# Altium schematic symbol library Power Board UCC28951.SchLib: 26 symbols
Pins are listed as number, name and electrical type; pins without a type are passive.

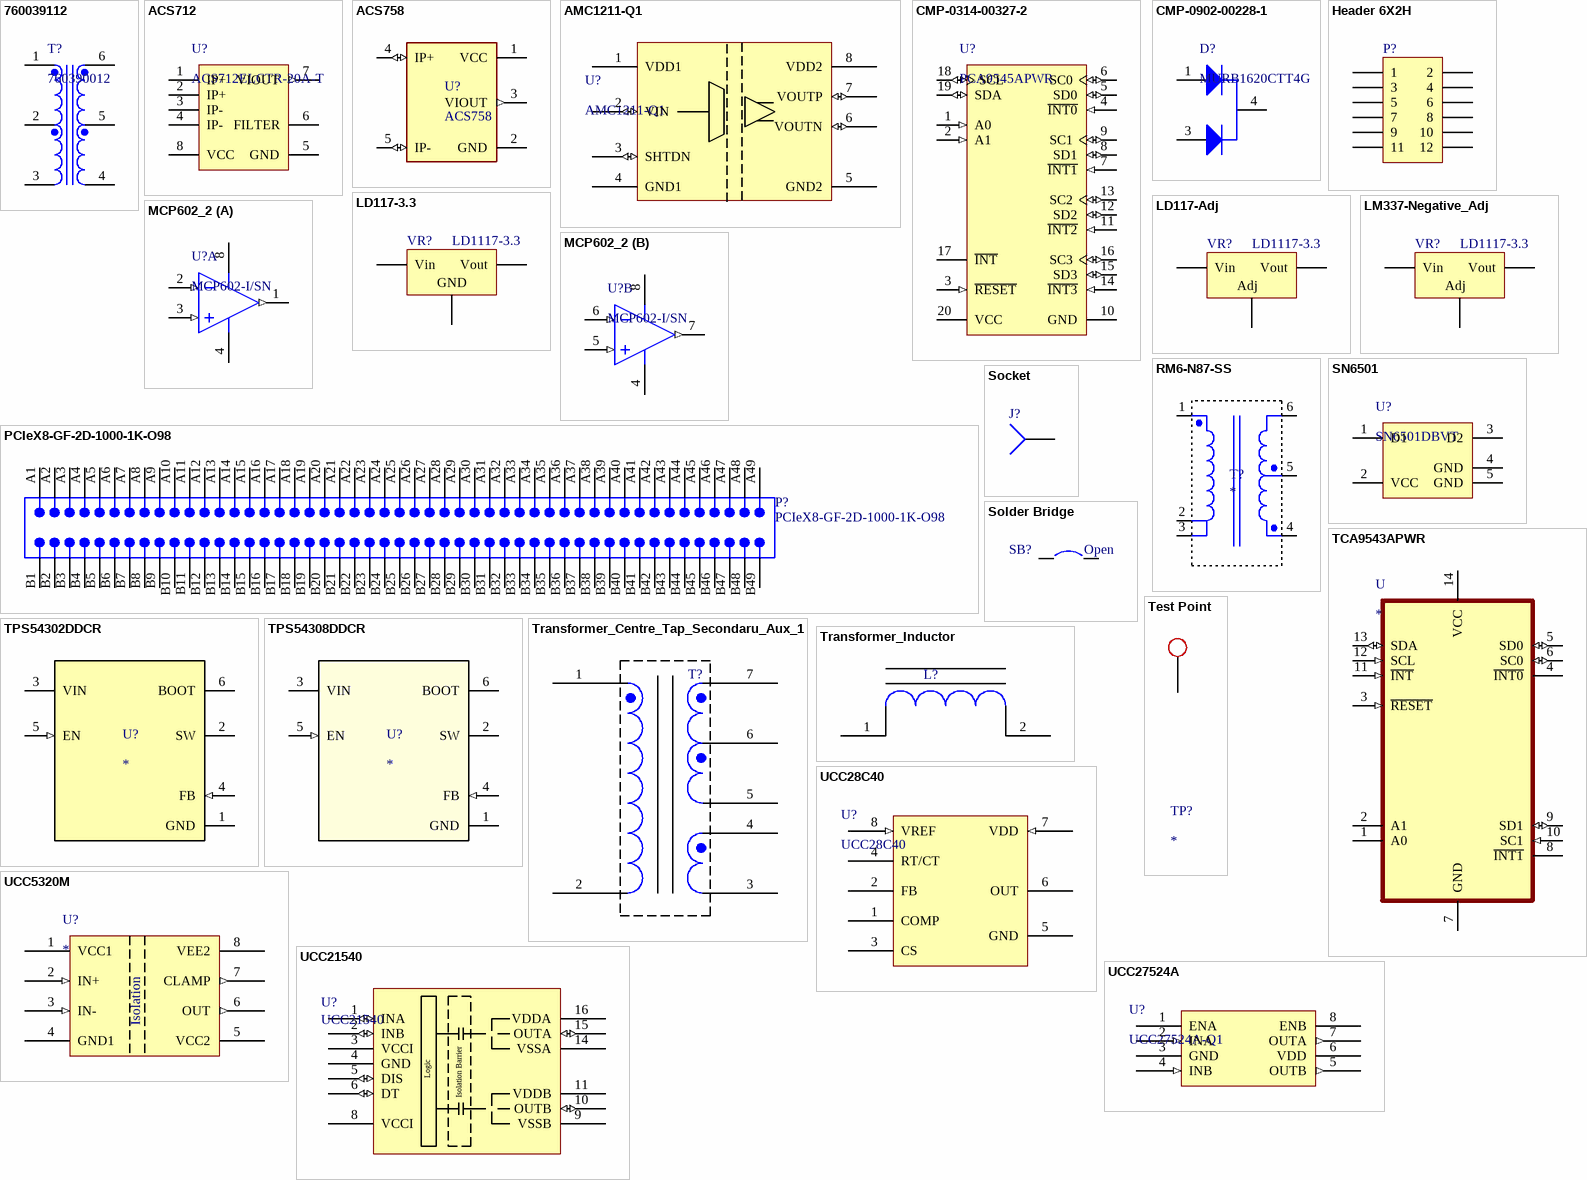
[diagram p0: symbols 760039112 to UCC27524A]

## 760039112
designator T?, comment 760390012
Transformer, 150 mA, -40 to 125 degC, 6-Pin SMD, RoHS, Tape and Reel; Manufacturer: Wuerth Elektronik; Mounting Technology: SurfaceMount; Manufacturer URL: https://www.we-online.com/; Datasheet Version: Rev. 6C, 06/2013; Datasheet URL: https://datasheet.ciiva.com/12335/760390012-221167-12335394.pdf; Package Description: 6-Pin Surface Mount Device, Body 7.14 x 6.73 mm, Pitch 2.54 mm; Package Reference: 7060390012-6
footprint WE-760390012-6_V (SMD, 6-Leads, Body 7.14x6.73mm, Pitch 2.54mm)
pins: 1, 2, 3, 4, 5, 6

## ACS712
designator U?, comment ACS712ELCTR-20A-T
Linear Current Sensor IC, 4.5 to 5.5 V Supply Voltage, 10 mA Supply Current, -40 to 85 degC, 8-Pin SOIC (LC), RoHS, Tape and Reel; Manufacturer: Allegro Microsystems; CLOAD: 10 nF Max.; ICC: 10 mA; F: 80 kHz; RLOAD: 4.7 kOhm Min.; Optimized Accuracy Range: +/- 20 A; TR: 3.5 us; Sensitivity Sens: 100 mV/A Typ.; Operating Temperature Range: -40 to 85 degC; ComponentLink2URL: http://www.allegromicro.com/~/media/Files/Datasheets/ACS712-Datasheet.ashx; ComponentLink1Description: Manufacturer URL; VCC: 4.5 to 5.5 V; Mounting Technology: Surface Mount; DatasheetVersion: Rev. 15; ComponentLink2Description: Datasheet; ComponentLink1URL: http://www.allegromicro.com/; PackageDescription: 8-Pin SOIC, Body 4.9 x 3.9 mm, Pitch 1.27 mm; PackageReference: LC-8; RoHS: TRUE; Packing: Tape and Reel; PartNumber: ACS712ELCTR-20A-T
pins: 1 IP+ "Terminals for current being sampled; fused internally", 2 IP+ "Terminals for current being sampled; fused internally", 3 IP- "Terminals for current being sampled; fused internally", 4 IP- "Terminals for current being sampled; fused internally", 5 GND (power) "Signal ground terminal", 6 FILTER "Terminal for external capacitor that sets bandwidth", 7 VIOUT (out) "Analog output signal", 8 VCC (power) "Device power supply terminal"

## ACS758
designator U?
Current Sensor 50A 1 Channel Hall Effect, Open Loop Unidirectional 5-CB Formed Leads, PFF; MF: Allegro MicroSystems LLC; Package: 5-CB-5 Allegro MicroSystems LLC; MP: ACS758; Availability: Unavailable; Price: None; Value: *; SnapEDA_Link: https://www.snapeda.com/parts/ACS758/Allegro%20MicroSystems%20LLC/view-part/226237/?ref=snap
footprint XDCR_ACS758
pins: 1 VCC (power), 2 GND (power), 3 VIOUT (out), 4 IP+ (io), 5 IP- (io)

## AMC1211-Q1
designator U?
footprint SOIC127P570X175_HS-9N (SOIC, 8-Leads, Body 4.91x3.90mm, Pitch 1.27mm, Thermal Pad 3.00x3.00mm, IPC Medium Density)
pins: 1 VDD1 (power), 2 VIN (io), 3 SHTDN (io), 4 GND1 (power), 5 GND2 (power), 6 VOUTN (io), 7 VOUTP (io), 8 VDD2 (power)

## CMP-0314-00327-2
designator U?, comment PCA9545APWR
4-Channel I2C and SMBus Multiplexer with Interrupt Logic and Reset Functions, 2.3 to 5.5 V, -40 to 85 degC, 20-pin TSSOP (PW), Green (RoHS & no Sb/Br); Manufacturer: Texas Instruments; Max Frequency(kHz): 400; Interrupt Output: Yes; Channel Width: 4; VCC(Max)(V): 5.5; Simultaneously Active Channels: 1 to 4; VCC(Min)(V): 2.3; tpd max(ns): 1; SubFamily: I2C Multiplexer, Switch; I2C Address: 1110 0xx; fSCLK(Max)(MHz): 400; Code_JEDEC: MO-153; 5V Tolerant I/O: Yes; Vcc range(V): 2.3 to 5.5; PackageReference: PW0020A; Mounting Technology: Surface Mount; Open Drain I/O Type: Yes; ComponentLink1URL: http://www.ti.com/general/docs/lit/getliterature.tsp?genericPartNumber=PCA9545A&fileType=pdf; ComponentLink1Description: Datasheet; PackageVersion: revG, Feb-2011; DatasheetVersion: SCPS147C; PartNumber: PCA9545APWR; Eco-Plan: Green (RoHS & no Sb/Br); Reset Input: Yes; PackageDescription: 20-Pin Plastic Thin Small Outline Package 6.5 x 4.4 mm Body ,0.65 mm Pitch
footprint QFN50P350X450X80_HS-21N (QFN, 20-Leads, Body 3.50x4.50mm, Pitch 1.50mm/0.50mm, Thermal Pad 2.10x3.10mm, IPC Medium Density)
pins: 1 A0 (in) "Address input 0. Connect directly to VCC or ground.", 2 A1 (in) "Address input 1. Connect directly to VCC or ground.", 3 ~{RESET} (in) "Active-low reset input. Connect to VCC through a pullup resistor, if not used.", 4 ~{INT0} (in) "Active-low interrupt input 0. Connect to VCC through a pullup resistor.", 5 SD0 (io) "Serial data 0. Connect to VCC through a pullup resistor.", 6 SC0 (io) "Serial clock 0. Connect to VCC through a pullup resistor.", 7 ~{INT1} (in) "Active-low interrupt input 1. Connect to VCC through a pullup resistor.", 8 SD1 (io) "Serial data 1. Connect to VCC through a pullup resistor.", 9 SC1 (io) "Serial clock 1. Connect to VCC through a pullup resistor.", 10 GND (power) "Ground", 11 ~{INT2} (in) "Active-low interrupt input 2. Connect to VCC through a pullup resistor.", 12 SD2 (io) "Serial data 2. Connect to VCC through a pullup resistor.", 13 SC2 (io) "Serial clock 2. Connect to VCC through a pullup resistor.", 14 ~{INT3} (in) "Active-low interrupt input 3. Connect to VCC through a pullup resistor.", 15 SD3 (io) "Serial data 3. Connect to VCC through a pullup resistor.", 16 SC3 (io) "Serial clock 3. Connect to VCC through a pullup resistor.", 17 ~{INT} (oc) "Active-low interrupt output. Connect to VCC through a pullup resistor.", 18 SCL (io) "Serial clock line. Connect to VCC through a pullup resistor.", 19 SDA (io) "Serial data line. Connect to VCC through a pullup resistor.", 20 VCC (power) "Supply power"

## CMP-0902-00228-1
designator D?, comment MURB1620CTT4G
SWITCHMODE(TM) Power Rectifier, 3-Pin D2PAK, Pb-Free, Tape and Reel; Manufacturer: On Semiconductor; IFSM Max (A): 100; VRRM Max (V): 200; Type: Ultrafast; ComponentLink2URL: http://www.onsemi.cn/pub_link/Collateral/MURB1620CT-D.PDF; Mounting Technology: Surface Mount; PackageReference: D2PAK-3-418B-04; PackageDescription: 3-Pin Flange Mount, Body 9.145 x 9.97 mm, Pitch 2.54 mm; PackageVersion: Rev. K, 09/2008; RoHS: TRUE; PartNumber: MURB1620CTT4G; Packing: Tape and Reel; ComponentLink1URL: http://www.onsemi.com/; ComponentLink3Description: Package Specification; ComponentLink3URL: http://www.onsemi.com/pub_link/Collateral/418B-04.PDF; DatasheetVersion: Rev. 7; ComponentLink2Description: Datasheet; ComponentLink1Description: Manufacturer URL
footprint DPAK254P1542X450-3N - diode (D2-PAK, 3-Pads, Body 7.60x8.36mm (max), IPC Medium Density)
pins: 1 A1, 3 A2, 4 K

## Header 6X2H
designator P?
Header, 6-Pin, Dual row, Right Angle; LatestRevisionDate: 17-Jul-2002; LatestRevisionNote: Re-released for DXP Platform.; Publisher: Altium Limited
footprint Stackable-Conn (Pin Header, pitch 2.54 mm, THT, Vertical, dual row, 12p)
pins: 1, 2, 3, 4, 5, 6, 7, 8, 9, 10, 11, 12

## LD117-3.3
designator VR?, comment LD1117-3.3
Voltage Regulator; Published: 24-Mar-1999; LatestRevisionDate: 29-May-2009; LatestRevisionNote: IPC-7351 Footprint Added.; PackageReference: D2PAK; Publisher: Altium Limited; PackageDescription: 3-Pin Transistor Outline Package 2.54 mm Pitch, 15.1 mm Lead Span
footprint SOT230P700X180-4N (SOT223, 4-Leads, Body 6.50x7.00mm (avg), Pitch 2.30mm, IPC Medium Density)
pins: 1 GND, 2 Vout, 3 Vin

## LD117-Adj
designator VR?, comment LD1117-3.3
Voltage Regulator; Published: 24-Mar-1999; LatestRevisionDate: 29-May-2009; LatestRevisionNote: IPC-7351 Footprint Added.; PackageReference: D2PAK; Publisher: Altium Limited; PackageDescription: 3-Pin Transistor Outline Package 2.54 mm Pitch, 15.1 mm Lead Span
footprint SOT230P700X180-4N (SOT223, 4-Leads, Body 6.50x7.00mm (avg), Pitch 2.30mm, IPC Medium Density)
pins: 1 Adj, 2 Vout, 3 Vin

## LM337-Negative_Adj
designator VR?, comment LD1117-3.3
Voltage Regulator; Published: 24-Mar-1999; LatestRevisionDate: 29-May-2009; LatestRevisionNote: IPC-7351 Footprint Added.; PackageReference: D2PAK; Publisher: Altium Limited; PackageDescription: 3-Pin Transistor Outline Package 2.54 mm Pitch, 15.1 mm Lead Span
footprint SOT230P700X180-4N (SOT223, 4-Leads, Body 6.50x7.00mm (avg), Pitch 2.30mm, IPC Medium Density)
pins: 1 Adj, 2 Vin, 3 Vout

## MCP602_2
designator U?, comment MCP602-I/SN
2.7V to 6.0V Single Supply CMOS Operational Amplifier, 8-Pin SOIC, Industrial Temperature; ComponentLink1URL: http://www.microchip.com/; ComponentLink1Description: Manufacturer URL; RevisionNote: URLs added.; PackageReference: SOIC-SN8; ComponentLink2URL: http://ww1.microchip.com/downloads/en/DeviceDoc/21314g.pdf; ComponentLink3URL: http://www.microchip.com/stellent/groups/techpub_sg/documents/packagingspec/en012702.pdf; PackageDescription: 8-Lead Plastic Small Outline (SN) - Narrow, 3.90mm Body [SOIC]; DatasheetVersion: revG, Dec-2007; ComponentLink2Description: Datasheet; ComponentLink3Description: Package Specification; Code_IPC: SOIC127P600-8; Code_JEDEC: MS-012; PackageVersion: revBB, Aug-2009
footprint SOIC127P570X175_HS-9N - No Thermal (SOIC, 8-Leads, Body 4.91x3.90mm, Pitch 1.27mm, Thermal Pad 3.00x3.00mm, IPC Medium Density)
pins on every part: 4 VSS (power), 8 VDD (power)
part A pins: 1 VOUTA (out), 2 VINA- (in), 3 VINA+ (in)
part B pins: 5 VINB+ (in), 6 VINB- (in), 7 VOUTB (out)

## PCIeX8-GF-2D-1000-1K-O98
designator P?  (no BOM)
Golden finger, PCIeX8, Dual, Opposite, Pitch 1mm, 98-Position; Mating Connector: Molex-87715-9205; Package Version: rev2.0, Apr-2007; ClassName: Edge Connector; Package Reference: GF-2D-1000-1K-O98; Datasheet Version: rev2.0, Apr-2007; Publisher: Altium
footprint SMTC-PCIE-098-02-F-D-TH_V (TH, 98-Leads, Body 56x8.61mm, Pitch 1mm)
pins: A1, A2, A3, A4, A5, A6, A7, A8, A9, A10, A11, A12, A13, A14, A15, A16, A17, A18, A19, A20, A21, A22, A23, A24, A25, A26, A27, A28, A29, A30, A31, A32, A33, A34, A35, A36, A37, A38, A39, A40, A41, A42, A43, A44, A45, A46, A47, A48, A49, B1, B2, B3, B4, B5, B6, B7, B8, B9, B10, B11, B12, B13, B14, B15, B16, B17, B18, B19, B20, B21, B22, B23, B24, B25, B26, B27, B28, B29, B30, B31, B32, B33, B34, B35, B36, B37, B38, B39, B40, B41, B42, B43, B44, B45, B46, B47, B48, B49

## RM6-N87-SS
designator T?
footprint RM6-N87-SS (TDK)
pins: 1, 2, 3 hidden, 3 1, 4, 5, 6, 8 hidden

## SN6501
designator U?, comment SN6501DBVT
Transformer Driver for Isolated Power Supplies, 0.15 to 0.35 A, 3 to 5.5 V, -40 to 125 degC, 5-Pin SOT-23 (DBV), Green (RoHS & no Sb/Br), Tape and Reel; Manufacturer: TexasInstruments; Package Version: 4073253-4/N, 12/2014; Minimum Input Voltage: 3V; Switching Frequency: 300to620kHz; Output Voltage: 0to11V; Number of Outputs: 1; Maximum Input Voltage: 5.5V; Maximum Output Current: 0.35A; Type: Non-Inverting|Inverting|StepUp|StepDown; Package: 5SOT-23; Package URL: http://www.ti.com/lit/ml/mpds018l/mpds018l.pdf; Category: DCtoDCConverter; Package Reference: DBV5; Datasheet Version: Rev. G, 09/2014; Packaging: Tape&Reel; Operating Temperature: -40to125°C; Manufacturer URL: http://www.ti.com/; Mounting: SurfaceMount; Rad Hard: No; Package Description: 5-Pin Small Outline Transistor, Body 2.9 x 1.6 mm, Pitch 0.95 mm; Datasheet URL: http://www.ti.com/lit/ds/symlink/sn6501.pdf; Mounting Technology: SurfaceMount
footprint SOT95P278X110-5N (SOT23, 5-Leads, Body 2.90x2.78mm, Pitch 0.95mm, IPC Medium Density)
pins: 1 D1 (oc) "Open Drain output 1. Connect this pin to one end of the transformer primary side", 2 VCC (power) "Supply voltage input. Connect this pin to the center-tap of the transformer primary side. Buffer this voltage with a 1 uF to 10 uF ceramic capacitor", 3 D2 (oc) "Open Drain output 2. Connect this pin to the other end of the transformer primary side.", 4 GND (power) "Device ground. Connect this pin to board ground.", 5 GND (power) "Device ground. Connect this pin to board ground."

## Socket
designator J?
Socket; LatestRevisionDate: 17-Jul-2002; LatestRevisionNote: Re-released for DXP Platform.; Publisher: Altium Limited
footprint Mounting_hole_3mm
footprint Mounting_screw_3mm
pins: 1

## Solder Bridge
designator SB?, comment Open  (no BOM)
Circuit Breaker; Published: 24-Mar-1999; Revision: July-2002: Re-released for DXP Platform.; Publisher: Altium Limited
footprint SB_0603 (Jumper)
footprint 1206 - Solder Bridge
footprint 0805-Solder Bridge
footprint Solder Bridge - HP - SQ
footprint Solder Bridge - HP
pins: 1, 2

## TCA9543APWR
designator U
2-Channel I2C Bus Switch With Interrupt Logic and Reset 14-TSSOP -40 to 85; MF: Texas Instruments; MP: TCA9543APWR; Package: TSSOP-14 Texas Instruments; Mouser-Purchase-URL: https://snapeda.com/shop?store=Mouser&id=422469; Texas_Instruments-Purchase-URL: https://snapeda.com/shop?store=Texas+Instruments&id=422469; Value: *; Price: None; DigiKey-Purchase-URL: https://snapeda.com/shop?store=DigiKey&id=422469; Availability: Good; SnapEDA_Link: https://www.snapeda.com/parts/TCA9543APWR/Texas%20Instruments/view-part/422469/?ref=snap
footprint TSOP65P640X120-14N (TSOP, 14-Leads, Body 5.00x4.40mm, Pitch 0.65mm, IPC Medium Density)
pins: 1 A0, 2 A1, 3 ~{RESET} (in), 4 ~{INT0}, 5 SD0 (io), 6 SC0 (io), 7 GND (power), 8 ~{INT1}, 9 SD1 (io), 10 SC1 (in), 11 ~{INT} (in), 12 SCL (in), 13 SDA (io), 14 VCC (power)

## Test Point
designator TP?  (no BOM)
Test Point
footprint Test_point_THT
footprint Test_point_SMD
pins: 1

## TPS54302DDCR
designator U?
Imported; PartNumber: TPS54302DDC; Manufacturer: Texas Instruments; Manufacturer_Part_Number: TPS54302DDCR; RefDes: RefDes; TYPE: TYPE; Value: Value; Manufacturer_Name: Texas Instruments
footprint SOT95P278X110-6N (SOT23, 6-Leads, Body 2.90x2.78mm, Pitch 0.95mm, IPC Medium Density)
pins: 1 GND (power), 2 SW (power), 3 VIN (power), 4 FB (in), 5 EN (in), 6 BOOT (power)

## TPS54308DDCR
designator U?
Imported; PartNumber: TPS54308DDCR; Manufacturer: Texas Instruments; RefDes: RefDes; Type: DEV; Value: Value; Manufacturer_Part_Number: TPS54308DDCR; Manufacturer_Name: Texas Instruments
footprint SOT95P278X110-6N (SOT23, 6-Leads, Body 2.90x2.78mm, Pitch 0.95mm, IPC Medium Density)
pins: 1 GND (power), 2 SW (power), 3 VIN (power), 4 FB (in), 5 EN (in), 6 BOOT (power)

## Transformer_Centre_Tap_Secondaru_Aux_1
designator T?  (value not drawn)
footprint ETD59
pins: 1, 2, 3, 4, 5, 6, 7

## Transformer_Inductor
designator L?  (value not drawn)
footprint Toroid_54439_2
footprint Shim Inductor
pins: 1, 2

## UCC28C40
designator U?
BiCMOS Low-Power Current-Mode PWM Controller
footprint SOIC127P570X175_HS-9N - No Thermal (SOIC, 8-Leads, Body 4.91x3.90mm, Pitch 1.27mm, Thermal Pad 3.00x3.00mm, IPC Medium Density)
pins: 1 COMP, 2 FB, 3 CS, 4 RT/CT, 5 GND, 6 OUT, 7 VDD (in), 8 VREF (in)

## UCC5320M
designator U?
Single-Channel Isolated Gate Drivers; Supplier 1: Digi-Key; Supplier Part Number 1: 296-49025-1-ND
footprint SOIC127P570X175_HS-9N (SOIC, 8-Leads, Body 4.91x3.90mm, Pitch 1.27mm, Thermal Pad 3.00x3.00mm, IPC Medium Density)
pins: 1 VCC1 (power), 2 IN+ (in), 3 IN- (in), 4 GND1 (power), 5 VCC2 (power), 6 OUT (out), 7 CLAMP (out), 8 VEE2 (power)
text: Isolation

## UCC21540
designator U?
pins: 1 INA (io), 2 INB (io), 3 VCCI (power), 4 GND (power), 5 DIS (io), 6 DT (io), 8 VCCI (power), 9 VSSB (power), 10 OUTB (io), 11 VDDB (power), 14 VSSA (power), 15 OUTA (io), 16 VDDA (power)
text: Logic; Isolation Barrier

## UCC27524A
designator U?, comment UCC27524A-Q1
footprint SOIC127P570X175_HS-9N (SOIC, 8-Leads, Body 4.91x3.90mm, Pitch 1.27mm, Thermal Pad 3.00x3.00mm, IPC Medium Density)
footprint SON65P300X75_HS-9N (SON, 8-Leads, Body 3.00x3.00mm, Pitch 0.65mm, Thermal Pad 2.20x1.25mm, IPC Medium Density)
pins: 1 ENA, 2 INA (in), 3 GND (power), 4 INB (in), 5 OUTB (out), 6 VDD (power), 7 OUTA (out), 8 ENB